# EAGLE library part DJOYSTICK-MY (library esp32_)
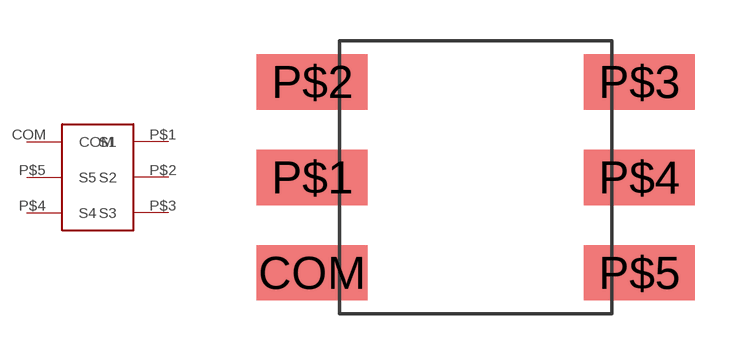
[diagram p3: symbol with the pads of DJOYSTIC-MY; footprint DJOYSTIC-MY]

Designator prefix -

## DJOYSTICK-MY  [DJOYSTIC-MY]
COM  COM
P$1  S1
P$2  S2
P$3  S3
P$4  S4
P$5  S5

## Footprint DJOYSTIC-MY (pad centres in mm)
My Djoystic
smd 4.064 x 2.032: COM -6,-3.5; P$1 -6,0; P$2 -6,3.5; P$3 6,3.5; P$4 6,0; P$5 6,-3.5